# EAGLE library part DIO6605B (library awqua_eagle_library)
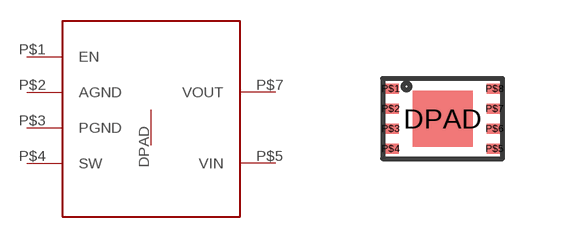
[diagram p24: symbol with the pads of DIO6605B; footprint DIO6605B]

Designator prefix -

## DIO6605B  [DIO6605B]
DPAD  DGND
P$1  EN
P$2  AGND
P$3  PGND
P$4  SW
P$5  VIN
P$7  VOUT

## Footprint DIO6605B (pad centres in mm)
smd 1.5 x 1.4: DPAD 1.5,1
smd 0.4 x 0.25: P$1 0.2,1.75; P$2 0.2,1.25; P$3 0.2,0.75; P$4 0.2,0.25; P$5 2.8,0.25; P$6 2.8,0.75; P$7 2.8,1.25; P$8 2.8,1.75